# Altium schematic symbol library Schlib1.SchLib: 11 symbols
Pins are listed as number, name and electrical type; pins without a type are passive.

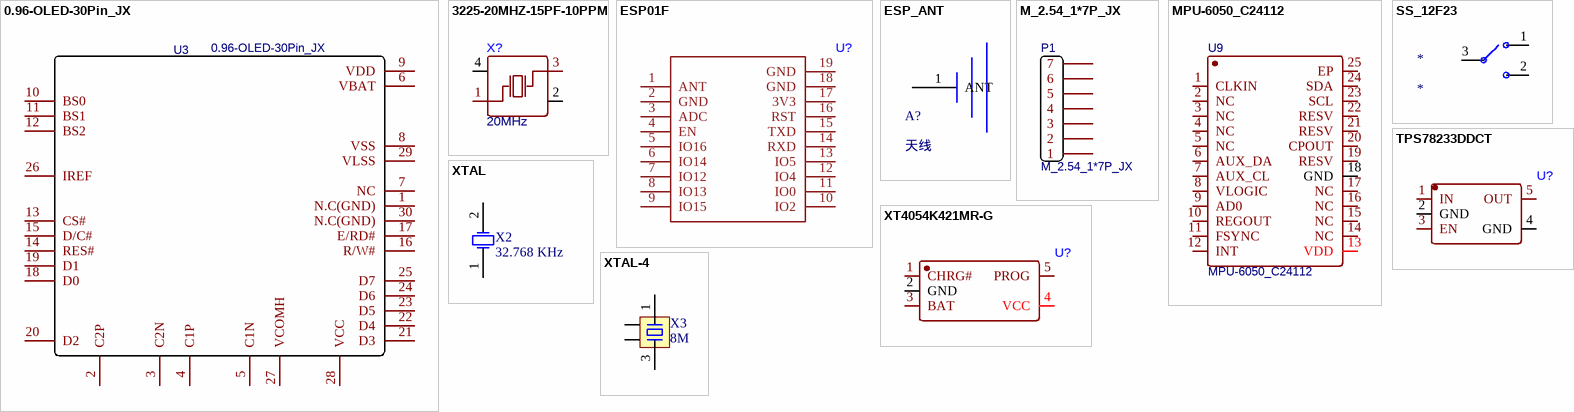
[diagram p0: symbols 0.96-OLED-30Pin_JX to XTAL-4]

## 0.96-OLED-30Pin_JX
designator U3
spicePre: U; BOM_Supplier: LCSC
footprint SSD1306-30PIN_JX
pins: 1 N.C(GND), 2 C2P, 3 C2N, 4 C1P, 5 C1N, 6 VBAT, 7 NC, 8 VSS, 9 VDD, 10 BS0, 11 BS1, 12 BS2, 13 CS#, 14 RES#, 15 D/C#, 16 R/W#, 17 E/RD#, 18 D0, 19 D1, 20 D2, 21 D3, 22 D4, 23 D5, 24 D6, 25 D7, 26 IREF, 27 VCOMH, 28 VCC, 29 VLSS, 30 N.C(GND)

## 3225-20MHZ-15PF-10PPM
designator X?, comment 20MHz
footprint OSC-SMD_4P-L3.2-W2.5-BL
pins: 1 OSC1, 2 GND, 3 OSC2, 4 GND

## ESP01F
designator U?
footprint ESP-01F
pins: 1 ANT, 2 GND, 3 ADC, 4 EN, 5 IO16, 6 IO14, 7 IO12, 8 IO13, 9 IO15, 10 IO2, 11 IO0, 12 IO4, 13 IO5, 14 RXD, 15 TXD, 16 RST, 17 3V3, 18 GND, 19 GND

## ESP_ANT
designator A?, comment 天线
footprint ESP_ANT
pins: 1 ANT

## M_2.54_1*7P_JX
designator P1
BOM_Supplier: LCSC; spicePre: P
footprint 2.54-1*7P_JX
pins: 1, 2, 3, 4, 5, 6, 7

## MPU-6050_C24112
designator U9
BOM_Manufacturer: InvenSense; sourceId: 1T5FDZYC8; timeStamp: 1462265206; BOM_Supplier: LCSC; BOM_Manufacturer Part: MPU-6050; image: //image.lceda.cn/szlcsc/C24112.jpg; BOM_Supplier Part: C24112; spicePre: U; spiceSymbolName: MPU-6050_C24112
footprint MPU6050
pins: 1 CLKIN, 2 NC, 3 NC, 4 NC, 5 NC, 6 AUX_DA, 7 AUX_CL, 8 VLOGIC, 9 AD0, 10 REGOUT, 11 FSYNC, 12 INT, 13 VDD, 14 NC, 15 NC, 16 NC, 17 NC, 18 GND, 19 RESV, 20 CPOUT, 21 RESV, 22 RESV, 23 SCL, 24 SDA, 25 EP

## SS_12F23
designator *
footprint SS_12F23 (七脚小拨动开关)
pins: 1, 2, 3

## TPS78233DDCT
designator U?
footprint SOT-23-5_L3.0-W1.7-P0.95-LS2.8-BR
pins: 1 IN, 2 GND, 3 EN, 4 GND, 5 OUT

## XT4054K421MR-G
designator U?
footprint SOT-23-5_L3.0-W1.7-P0.95-LS2.8-BR
pins: 1 CHRG#, 2 GND, 3 BAT, 4 VCC, 5 PROG

## XTAL
designator X2, comment 32.768 KHz
Crystal Oscillator; Published: 8-Jun-2000; LatestRevisionDate: 17-Jul-2002; LatestRevisionNote: Re-released for DXP Platform.; PackageReference: R38; Publisher: Altium Limited; PackageDescription: Crystal, Thru-Hole; 2 Leads; Body 3.1 x 8.2 mm (Dia.xH)
simulation model XTAL (Spice Subcircuit)
footprint XTAL-3215
footprint XTAL-3X8H
pins: 1 OSC1, 2 OSC2

## XTAL-4
designator X3, comment 8M
4脚晶振; 版权归属: 源创客; BOM名称: 4脚晶振; 学习资源: www.ooocke.com
footprint XTAL-5032
footprint XTAL-3225
pins: 1, 2, 3, 4